# EAGLE library part LM2678 (library PowerComponents)
LM2678 Buck Converter IC 12V-to-5V
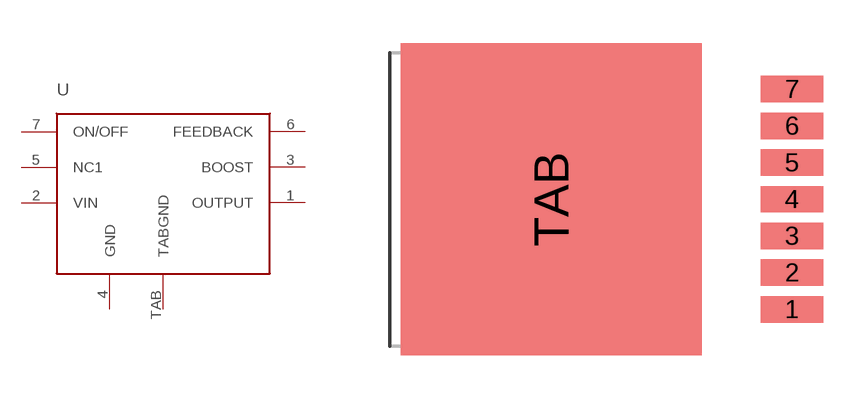
[diagram p0: symbol with the pads of LM2678; footprint LM2678]

Designator prefix U

## LM2678  [LM2678]
1  OUTPUT
2  VIN
3  BOOST
4  GND
5  NC1  nc
6  FEEDBACK
7  ON/OFF
TAB  TABGND

## Footprint LM2678 (pad centres in mm)
http://www.ti.com/lit/ds/symlink/lm2678.pdf D2PAK-7
smd 2.159 x 0.914: 1 8.331,-3.81; 2 8.331,-2.54; 3 8.331,-1.27; 4 8.331,0; 5 8.331,1.27; 6 8.331,2.54; 7 8.331,3.81
smd 10.414 x 10.795: TAB 0,0